# EAGLE library part LM2662 (library Spectron2)
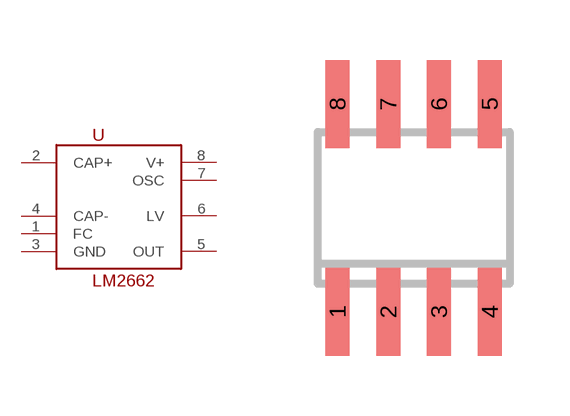
[diagram p5: symbol with the pads of SOIC8; footprint SOIC8]

Designator prefix U

## LM2662  [SOIC8]
1  FC
2  CAP+
3  GND
4  CAP-
5  OUT
6  LV
7  OSC
8  V+

## Footprint SOIC8 (pad centres in mm)
Small Outline IC
smd 0.6 x 2.2: 1 -1.905,-2.6; 2 -0.635,-2.6; 3 0.635,-2.6; 4 1.905,-2.6; 5 1.905,2.6; 6 0.635,2.6; 7 -0.635,2.6; 8 -1.905,2.6